# Altium schematic symbol library MCP9700T-E_LT.Schlib: 1 symbol
Pins are listed as number, name and electrical type; pins without a type are passive.

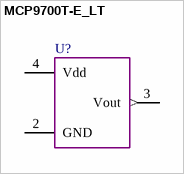
[diagram p0: symbol MCP9700T-E_LT]

## MCP9700T-E_LT
designator U?  (value not drawn)
pins: 2 GND (power), 3 Vout (out), 4 Vdd (power)